# EAGLE library part MC34063A (library Public)
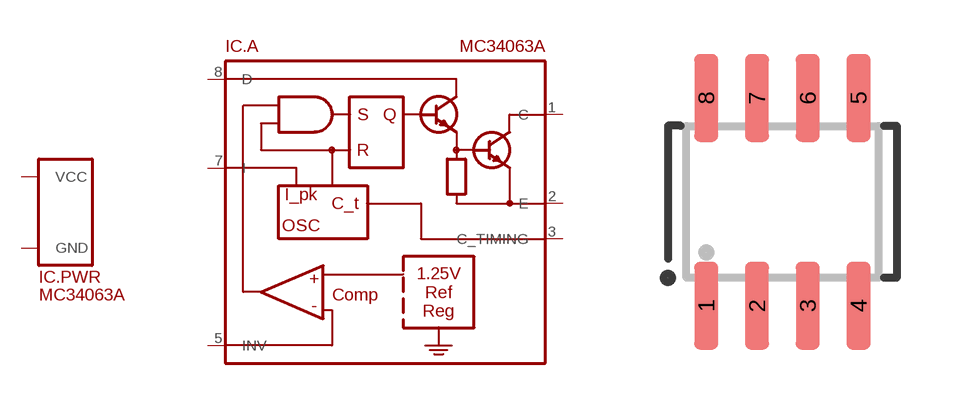
[diagram p75: symbol with the pads of SO8; footprint SO8]

Designator prefix IC; gates .PWR=SUPPLY_VCC/GND .A=MC34063A

## MC34063A  [SO8]
1  .A:C
2  .A:E
3  .A:C_TIMING
4  .PWR:GND
5  .A:INV
6  .PWR:VCC
7  .A:I
8  .A:D

## Footprint SO8 (pad centres in mm)
smd 0.6 x 2.2: 1 -1.905,-2.6; 2 -0.635,-2.6; 3 0.635,-2.6; 4 1.905,-2.6; 5 1.905,2.6; 6 0.635,2.6; 7 -0.635,2.6; 8 -1.905,2.6